# EAGLE library part AMP-ETH-POE (library balto)
MODULAR JACK 8 POS., RIGHT ANGLE, LOW PROFILE WITH LEDS Source: http://ecommas.tycoelectronics.com/.. 569564_K.pdf
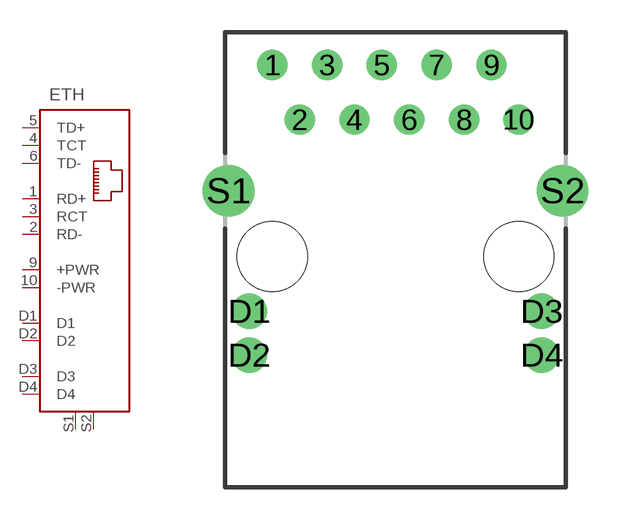
[diagram p1: symbol with the pads of AMP-8P8C-POE; footprint AMP-8P8C-POE]

Designator prefix ETH

## AMP-ETH-POE  [AMP-8P8C-POE]
1  RD+  pas
2  RD-  pas
3  RCT  pas
4  TCT  pas
5  TD+  pas
6  TD-  pas
9  +PWR  pas
10  -PWR  pas
D1  D1  pas
D2  D2  pas
D3  D3  pas
D4  D4  pas
S1  P$9  pas
S2  P$10  pas

## Footprint AMP-8P8C-POE (pad centres in mm)
Modular Jack 8 Position right angle, low profile, panel ground with LEDS Source: http://ecommas.tycoelectronics.com/.. 569564_K.pdf
drill 0.9: 1 -5.715,8.89; 2 -4.445,6.35; 3 -3.175,8.89; 4 -1.905,6.35; 5 -0.635,8.89; 6 0.635,6.35; 7 1.905,8.89; 8 3.175,6.35; 9 4.445,8.89; 10 5.715,6.35
drill 1.1: D1 -6.782,-2.54; D2 -6.782,-4.572; D3 6.782,-2.54; D4 6.782,-4.572
drill 1.6: S1 -7.745,3.05; S2 7.745,3.05
hole 3.25 at -5.715,0
hole 3.25 at 5.715,0